# EAGLE library part WE-RJ45_7499311614 (library 7499511611A_Eagle_WE-RJ45_rev20a)
WE-RJ45 LAN Transformer Characteristics RJ45 Connector with integrated transformer / common mode choke Power over Ethernet up to 50 Watt and speeds up to 10 Gbit/s Available in SMD, THT and THT with USB Compliant with standards: IEEE 802.3u, IEEE 802.3ab, IEEE 802.3af, IEEE 802.3at, IEEE 802.3an and upcoming IEE 802.3bt Applications Suitable for industrial temperatures from –40 °C up to +85 °C Compatible to Industrial Ethernet systems like EtherCAT or Profinet Compliant with most IC’s for Ethernet applications such as Microchip, Texas Instruments, Broadcom, Linear Technology Hubs, Routers, Switches, IP cameras, IoT applications <https://www.we-online.com/catalog/media/o35731v209%20Family_WE-RJ45-LAN.jpg> Details see: https://www.we-online.com/catalog/en/WE-LAN-RJ45/ Created by Ella Wu 2020-05-15 2020 (C) Wurth Elektronik
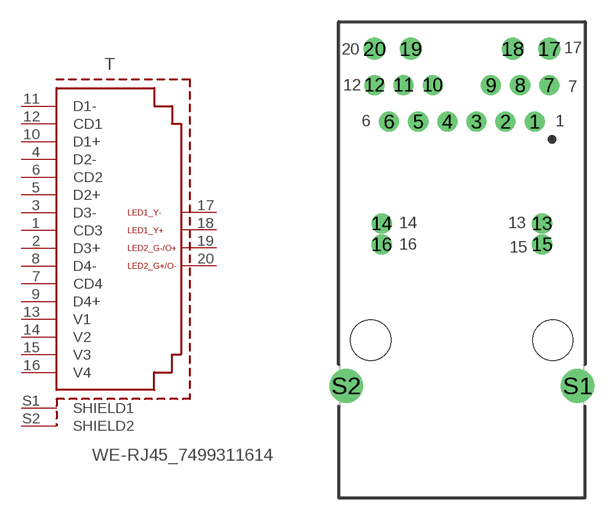
[diagram p30: symbol with the pads of 7499311614; footprint 7499311614]

Designator prefix T

## WE-RJ45_7499311614 (DATA-RATE: 1001 Base-T; DATASHEET-URL: https://www.we-online.com/catalog/datasheet/7499311614.pdf; LED: green/orange-green; MOUNT: THT; PART-NUMBER: 7499311614; POE: PoE (up to 350 mA each center Tap); PORTS: 1; USB: No)  [7499311614]
1  CD3
2  D3+
3  D3-
4  D2-
5  D2+
6  CD2
7  CD4
8  D4-
9  D4+
10  D1+
11  D1-
12  CD1
13  V1
14  V2
15  V3
16  V4
17  LED1_Y-  pas
18  LED1_Y+  pas
19  LED2_G-/O+  pas
20  LED2_G+/O-  pas
S1  SHIELD1  pwr
S2  SHIELD2  pwr

## Footprint 7499311614 (pad centres in mm)
WE-RJ45 LAN Transformer 1000 Base-T
drill 0.89: 1 5.075,15.24; 2 3.045,15.24; 3 1.015,15.24; 4 -1.015,15.24; 5 -3.045,15.24; 6 -5.075,15.24; 7 6.09,17.78; 8 4.06,17.78; 9 2.03,17.78; 10 -2.03,17.78; 11 -4.06,17.78; 12 -6.09,17.78
drill 0.89 pad 1.25: 13 5.59,8.12; 14 -5.59,8.12; 15 5.59,6.66; 16 -5.59,6.66
drill 1.02: 17 6.09,20.32; 18 3.555,20.32; 19 -3.555,20.32; 20 -6.09,20.32
drill 1.57: S1 8.065,-3.18; S2 -8.065,-3.18
hole 2.8 at -6.35,0
hole 2.8 at 6.35,0